# Altium schematic symbol library DWM3001C.Schlib: 1 symbol
Pins are listed as number, name and electrical type; pins without a type are passive.

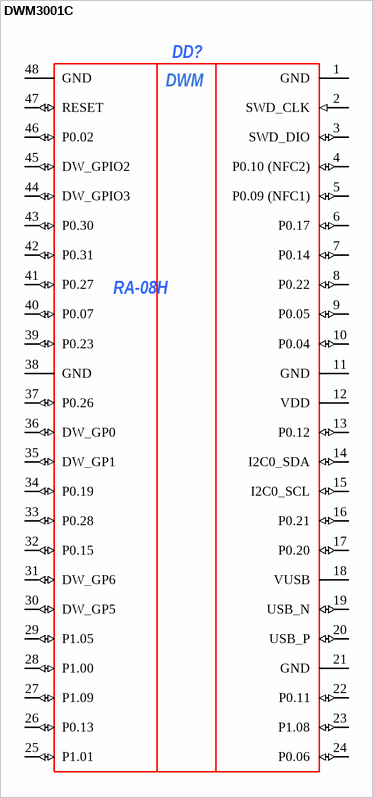
[diagram p0: symbol DWM3001C]

## DWM3001C
designator DD?, comment RA-08H
ManufacturerPartNumber: OLED 1.3 SSD1306; ComponentLink1Description: *; ComponentLink1URL: *; ComponentLink2Description: *; ComponentLink2URL: *; Power/Voltage: *; Rem: *; TKE: *; Tolerance: *; TU/GOST: *; Value: *; Корпус: *; Примечание: *; Manufacturer: *; Author: *; Type: *
footprint RA-08H
pins: 1 GND (power), 2 SWD_CLK (in), 3 SWD_DIO (io), 4 P0.10 (NFC2) (io), 5 P0.09 (NFC1) (io), 6 P0.17 (io), 7 P0.14 (io), 8 P0.22 (io), 9 P0.05 (io), 10 P0.04 (io), 11 GND (power), 12 VDD (power), 13 P0.12 (io), 14 I2C0_SDA (io), 15 I2C0_SCL (io), 16 P0.21 (io), 17 P0.20 (io), 18 VUSB (power), 19 USB_N (io), 20 USB_P (io), 21 GND (power), 22 P0.11 (io), 23 P1.08 (io), 24 P0.06 (io), 25 P1.01 (io), 26 P0.13 (io), 27 P1.09 (io), 28 P1.00 (io), 29 P1.05 (io), 30 DW_GP5 (io), 31 DW_GP6 (io), 32 P0.15 (io), 33 P0.28 (io), 34 P0.19 (io), 35 DW_GP1 (io), 36 DW_GP0 (io), 37 P0.26 (io), 38 GND (power), 39 P0.23 (io), 40 P0.07 (io), 41 P0.27 (io), 42 P0.31 (io), 43 P0.30 (io), 44 DW_GPIO3 (io), 45 DW_GPIO2 (io), 46 P0.02 (io), 47 RESET (io), 48 GND (power)
text: DWM